# EAGLE library part ZXGD3005E6TA (library ZXGD3005E6TA)
25V 10A GATE DRIVER IN SOT26
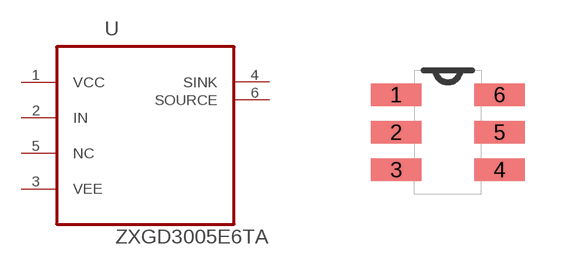
[diagram p0: symbol with the pads of SOT95P280X130-6N; footprint SOT95P280X130-6N]

Designator prefix U

## ZXGD3005E6TA (Description: High and Low Side 10 A 25 V Surface Mount Non Inverting Gate Driver - SOT-26; Digi-Key_Part_Number: ZXGD3005E6TADICT-ND; Digi-Key_Purchase_URL: https://www.digikey.com/product-detail/en/diodes-incorporated/ZXGD3005E6TA/ZXGD3005E6TADICT-ND/2638865?utm_source=snapeda&utm_medium=aggregator&utm_campaign=symbol; MF: Diodes Inc.; MP: ZXGD3005E6TA; Package: SOT-23-6 Diodes Inc.)  [SOT95P280X130-6N]
1  VCC  pwr
2  IN  in
3  VEE  pwr
4  SINK  out
5  NC  nc
6  SOURCE  out

## Footprint SOT95P280X130-6N (pad centres in mm)
smd 1.27 x 0.559: 1 -1.295,0.94; 2 -1.295,0; 3 -1.295,-0.94; 4 1.295,-0.94; 5 1.295,0; 6 1.295,0.94